# Altium footprint library Honeywell_40PC250G1A.PcbLib: 1 footprints
Each footprint in its own frame and in the unit in brackets; x right, y up, seen from the top. Pads: shape width x height; smd on the part's side, far side on the other; paste and mask are expansions set on the pad; w line width, h text height; cw(c..) or ccw(c..) is an arc to the next point about the centre after c.
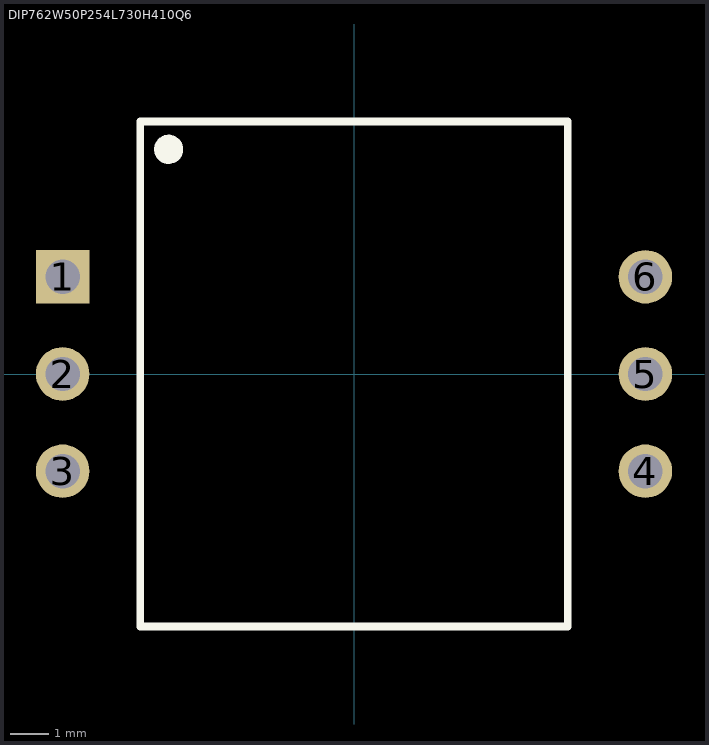
[diagram p0: the footprint, top view; thin cyan lines are the x and y axes]

## DIP762W50P254L730H410Q6 [mm]
pads (6):
  rect 1.4x1.4 hole 0.9: 1(-7.62,2.54)
  round 1.4 hole 0.9: 2(-7.62,0) 3(-7.62,-2.54) 4(7.62,-2.54) 5(7.62,0) 6(7.62,2.54)
Top Overlay:
  circle w0.2: c-4.848,5.875 r0.283
  lines w0.2: -4.848,5.875 -5.048,5.775 ; -5.048,5.775 -4.748,5.675 -4.648,5.875 -4.848,6.075 -5.048,5.775 ; -5.588,-6.604 5.588,-6.604 5.588,6.604 -5.588,6.604 -5.588,-6.604